# Altium footprint library MicroBit.PCBLIB: 5 footprints
Each footprint in its own frame and in the unit in brackets; x right, y up, seen from the top. Pads: shape width x height; smd on the part's side, far side on the other; paste and mask are expansions set on the pad; w line width, h text height; cw(c..) or ccw(c..) is an arc to the next point about the centre after c.
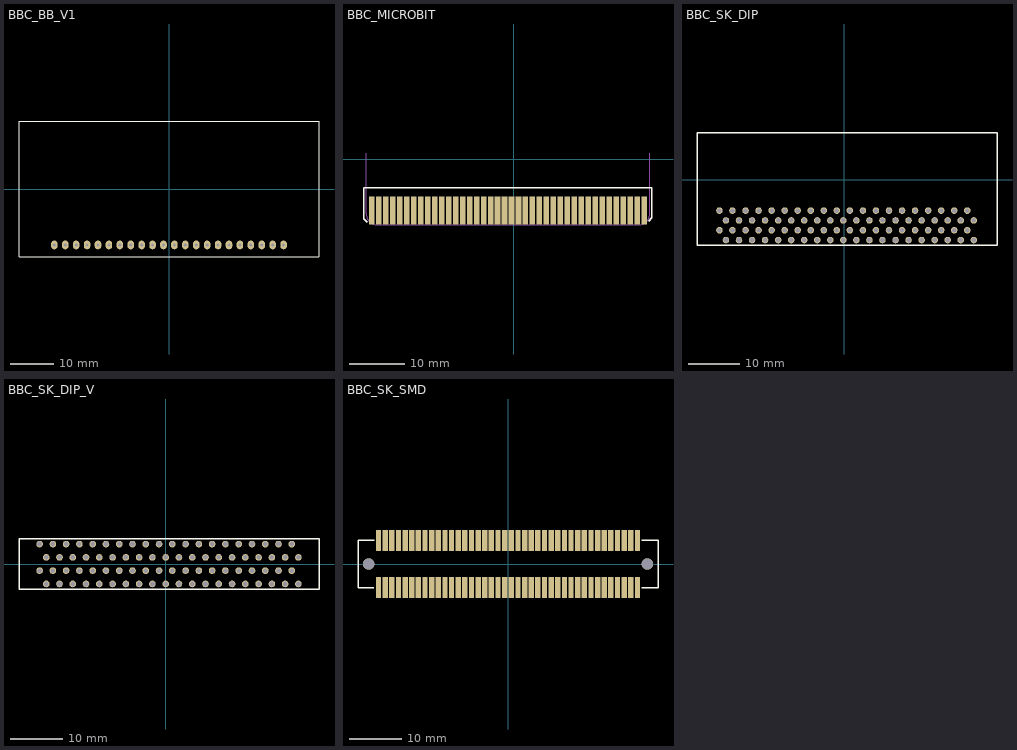
[diagram p0: the footprints below, top view; thin cyan lines are the x and y axes]

## BBC_BB_V1 [mil]
pads (22):
  oval 60x80 hole 30: 1(-1053.57,-510) 2(-953.57,-510) 3(-853.57,-510) 4(-753.57,-510) 5(-653.57,-510) 6(-553.57,-510) 7(-453.57,-510) 8(-353.57,-510) 9(-253.57,-510) 10(-153.57,-510) 11(-53.57,-510) 12(46.43,-510) 13(146.43,-510) 14(246.43,-510) 15(346.43,-510) 16(446.43,-510) 17(546.43,-510) 18(646.43,-510) 19(746.43,-510) 20(846.43,-510) 21(946.43,-510) 22(1046.43,-510)
Top Overlay:
  lines w10: -1376.92,-620 1370.83,-620 1370.83,625 -1376.92,625 -1376.92,-620

## BBC_MICROBIT [mil]
pads (40):
  rect 40x200 smd: 1(-1016.97,-366.76) 2(-966.97,-366.76) 3(-916.97,-366.76) 4(-866.97,-366.76) 5(-816.97,-366.76) 6(-766.97,-366.76) 7(-716.97,-366.76) 8(-666.97,-366.76) 9(-616.97,-366.76) 10(-566.97,-366.76) 11(-516.97,-366.76) 12(-466.97,-366.76) 13(-416.97,-366.76) 14(-366.97,-366.76) 15(-316.97,-366.76) 16(-266.97,-366.76) 17(-216.97,-366.76) 18(-166.97,-366.76) 19(-116.97,-366.76) 20(-66.97,-366.76) 21(-16.97,-366.76) 22(33.03,-366.76) 23(83.03,-366.76) 24(133.03,-366.76) 25(183.03,-366.76) 26(233.03,-366.76) 27(283.03,-366.76) 28(333.03,-366.76) 29(383.03,-366.76) 30(433.03,-366.76) 31(483.03,-366.76) 32(533.03,-366.76) 33(583.03,-366.76) 34(633.03,-366.76) 35(683.03,-366.76) 36(733.03,-366.76) 37(783.03,-366.76) 38(833.03,-366.76) 39(883.03,-366.76) 40(933.03,-366.76)
Top Overlay:
  lines w10: -1050,-450 -1075,-425 -1075,-205 990,-205 990,-420 965.16,-444.84
Dimension:
  lines w0: -1057.72,44.54 -1057.72,-391.17 ccw(c-978.98,-391.17) -978.98,-469.91 895.04,-469.91 ccw(c895.04,-391.17) 973.78,-391.17 973.78,44.54
3D body "BBC_MICROBIT.stp": height 223.22, standoff -194.1, extent -1067.62,-391 979.62,1292.08

## BBC_SK_DIP [mil]
pads (80):
  round 50 / inner round 60 / far side round 50 hole 35.43: 1(-958,-386.02) 2(-908,-461.22) 3(-858,-386.02) 4(-808,-461.22) 5(-758,-386.02) 6(-708,-461.22) 7(-658,-386.02) 8(-608,-461.22) 9(-558,-386.02) 10(-508,-461.22) 11(-458,-386.02) 12(-408,-461.22) 13(-358,-386.02) 14(-308,-461.22) 15(-258,-386.02) 16(-208,-461.22) 17(-158,-386.02) 18(-108,-461.22) 19(-58,-386.02) 20(-8,-461.22) 21(42,-386.02) 22(92,-461.22) 23(142,-386.02) 24(192,-461.22) 25(242,-386.02) 26(292,-461.22) 27(342,-386.02) 28(392,-461.22) 29(442,-386.02) 30(492,-461.22) 31(542,-386.02) 32(592,-461.22) 33(642,-386.02) 34(692,-461.22) 35(742,-386.02) 36(792,-461.22) 37(842,-386.02) 38(892,-461.22) 39(942,-386.02) 40(992,-461.22) 41(-958,-235.63) 42(-908,-310.82) 43(-858,-235.63) 44(-808,-310.82) 45(-758,-235.63) 46(-708,-310.82) 47(-658,-235.63) 48(-608,-310.82) 49(-558,-235.63) 50(-508,-310.82) 51(-458,-235.63) 52(-408,-310.82) 53(-358,-235.63) 54(-308,-310.82) 55(-258,-235.63) 56(-208,-310.82) 57(-158,-235.63) 58(-108,-310.82) 59(-58,-235.63) 60(-8,-310.82) 61(42,-235.63) 62(92,-310.82) 63(142,-235.63) 64(192,-310.82) 65(242,-235.63) 66(292,-310.82) 67(342,-235.63) 68(392,-310.82) 69(442,-235.63) 70(492,-310.82) 71(542,-235.63) 72(592,-310.82) 73(642,-235.63) 74(692,-310.82) 75(742,-235.63) 76(792,-310.82) 77(842,-235.63) 78(892,-310.82) 79(942,-235.63) 80(992,-310.82)
Top Overlay:
  lines w10: -1130,-500 1170,-500 1170,360 -1130,360 -1130,-500
3D body "microbit edge connector PHT v1.step": height 365.91, standoff -117.17, extent -1119.98,-491.09 1159.55,353.17

## BBC_SK_DIP_V [mil]
pads (80):
  round 50 / inner round 60 / far side round 50 hole 35.43: 1(1000,49.8) 2(950,150) 3(900,49.8) 4(850,150) 5(800,49.8) 6(750,150) 7(700,49.8) 8(650,150) 9(600,49.8) 10(550,150) 11(500,49.8) 12(450,150) 13(400,49.8) 14(350,150) 15(300,49.8) 16(250,150) 17(200,49.8) 18(150,150) 19(100,49.8) 20(50,150) 21(0,49.8) 22(-50,150) 23(-100,49.8) 24(-150,150) 25(-200,49.8) 26(-250,150) 27(-300,49.8) 28(-350,150) 29(-400,49.8) 30(-450,150) 31(-500,49.8) 32(-550,150) 33(-600,49.8) 34(-650,150) 35(-700,49.8) 36(-750,150) 37(-800,49.8) 38(-850,150) 39(-900,49.8) 40(-950,150) 41(1000,-150.19) 42(950,-50) 43(900,-150.19) 44(850,-50) 45(800,-150.19) 46(750,-50) 47(700,-150.19) 48(650,-50) 49(600,-150.19) 50(550,-50) 51(500,-150.19) 52(450,-50) 53(400,-150.19) 54(350,-50) 55(300,-150.19) 56(250,-50) 57(200,-150.19) 58(150,-50) 59(100,-150.19) 60(50,-50) 61(0,-150.19) 62(-50,-50) 63(-100,-150.19) 64(-150,-50) 65(-200,-150.19) 66(-250,-50) 67(-300,-150.19) 68(-350,-50) 69(-400,-150.19) 70(-450,-50) 71(-500,-150.19) 72(-550,-50) 73(-600,-150.19) 74(-650,-50) 75(-700,-150.19) 76(-750,-50) 77(-800,-150.19) 78(-850,-50) 79(-900,-150.19) 80(-950,-50)
Top Overlay:
  lines w10: -1105,-190 -1105,190 1155,190 1155,-190 -1105,-190
3D body "BBC_SK_DIP_V.step": height 620.24, standoff -90, extent -1095.08,-174.61 1145.08,175

## BBC_SK_SMD [mm]
pads (82):
  rect 1.02x4 smd: 1(-24.765,-4.5) 2(-23.495,-4.5) 3(-22.225,-4.5) 4(-20.955,-4.5) 5(-19.685,-4.5) 6(-18.415,-4.5) 7(-17.145,-4.5) 8(-15.875,-4.5) 9(-14.605,-4.5) 10(-13.335,-4.5) 11(-12.065,-4.5) 12(-10.795,-4.5) 13(-9.525,-4.5) 14(-8.255,-4.5) 15(-6.985,-4.5) 16(-5.715,-4.5) 17(-4.445,-4.5) 18(-3.175,-4.5) 19(-1.905,-4.5) 20(-0.635,-4.5) 21(0.635,-4.5) 22(1.905,-4.5) 23(3.175,-4.5) 24(4.445,-4.5) 25(5.715,-4.5) 26(6.985,-4.5) 27(8.255,-4.5) 28(9.525,-4.5) 29(10.795,-4.5) 30(12.065,-4.5) 31(13.335,-4.5) 32(14.605,-4.5) 33(15.875,-4.5) 34(17.145,-4.5) 35(18.415,-4.5) 36(19.685,-4.5) 37(20.955,-4.5) 38(22.225,-4.5) 39(23.495,-4.5) 40(24.765,-4.5) 41(-24.765,4.5) 42(-23.495,4.5) 43(-22.225,4.5) 44(-20.955,4.5) 45(-19.685,4.5) 46(-18.415,4.5) 47(-17.145,4.5) 48(-15.875,4.5) 49(-14.605,4.5) 50(-13.335,4.5) 51(-12.065,4.5) 52(-10.795,4.5) 53(-9.525,4.5) 54(-8.255,4.5) 55(-6.985,4.5) 56(-5.715,4.5) 57(-4.445,4.5) 58(-3.175,4.5) 59(-1.905,4.5) 60(-0.635,4.5) 61(0.635,4.5) 62(1.905,4.5) 63(3.175,4.5) 64(4.445,4.5) 65(5.715,4.5) 66(6.985,4.5) 67(8.255,4.5) 68(9.525,4.5) 69(10.795,4.5) 70(12.065,4.5) 71(13.335,4.5) 72(14.605,4.5) 73(15.875,4.5) 74(17.145,4.5) 75(18.415,4.5) 76(19.685,4.5) 77(20.955,4.5) 78(22.225,4.5) 79(23.495,4.5) 80(24.765,4.5)
  round 2.2 hole 2.2 unplated: MH1(-26.67,0) MH2(26.67,0)
Top Overlay:
  lines w0.254: -25.654,-4.572 -28.702,-4.572 -28.702,4.572 -25.57,4.572 -25.654,4.572 ; 25.57,-4.572 28.702,-4.572 28.702,4.572 25.57,4.572
3D body "SMT EDGE.step": height 15.02, standoff -1.08, extent -28.626,-5.721 28.374,5.721